# Altium integrated library Linear Technology Power Management LDO Linear Regulators.IntLib: 2339 symbols (part 35 of 131)
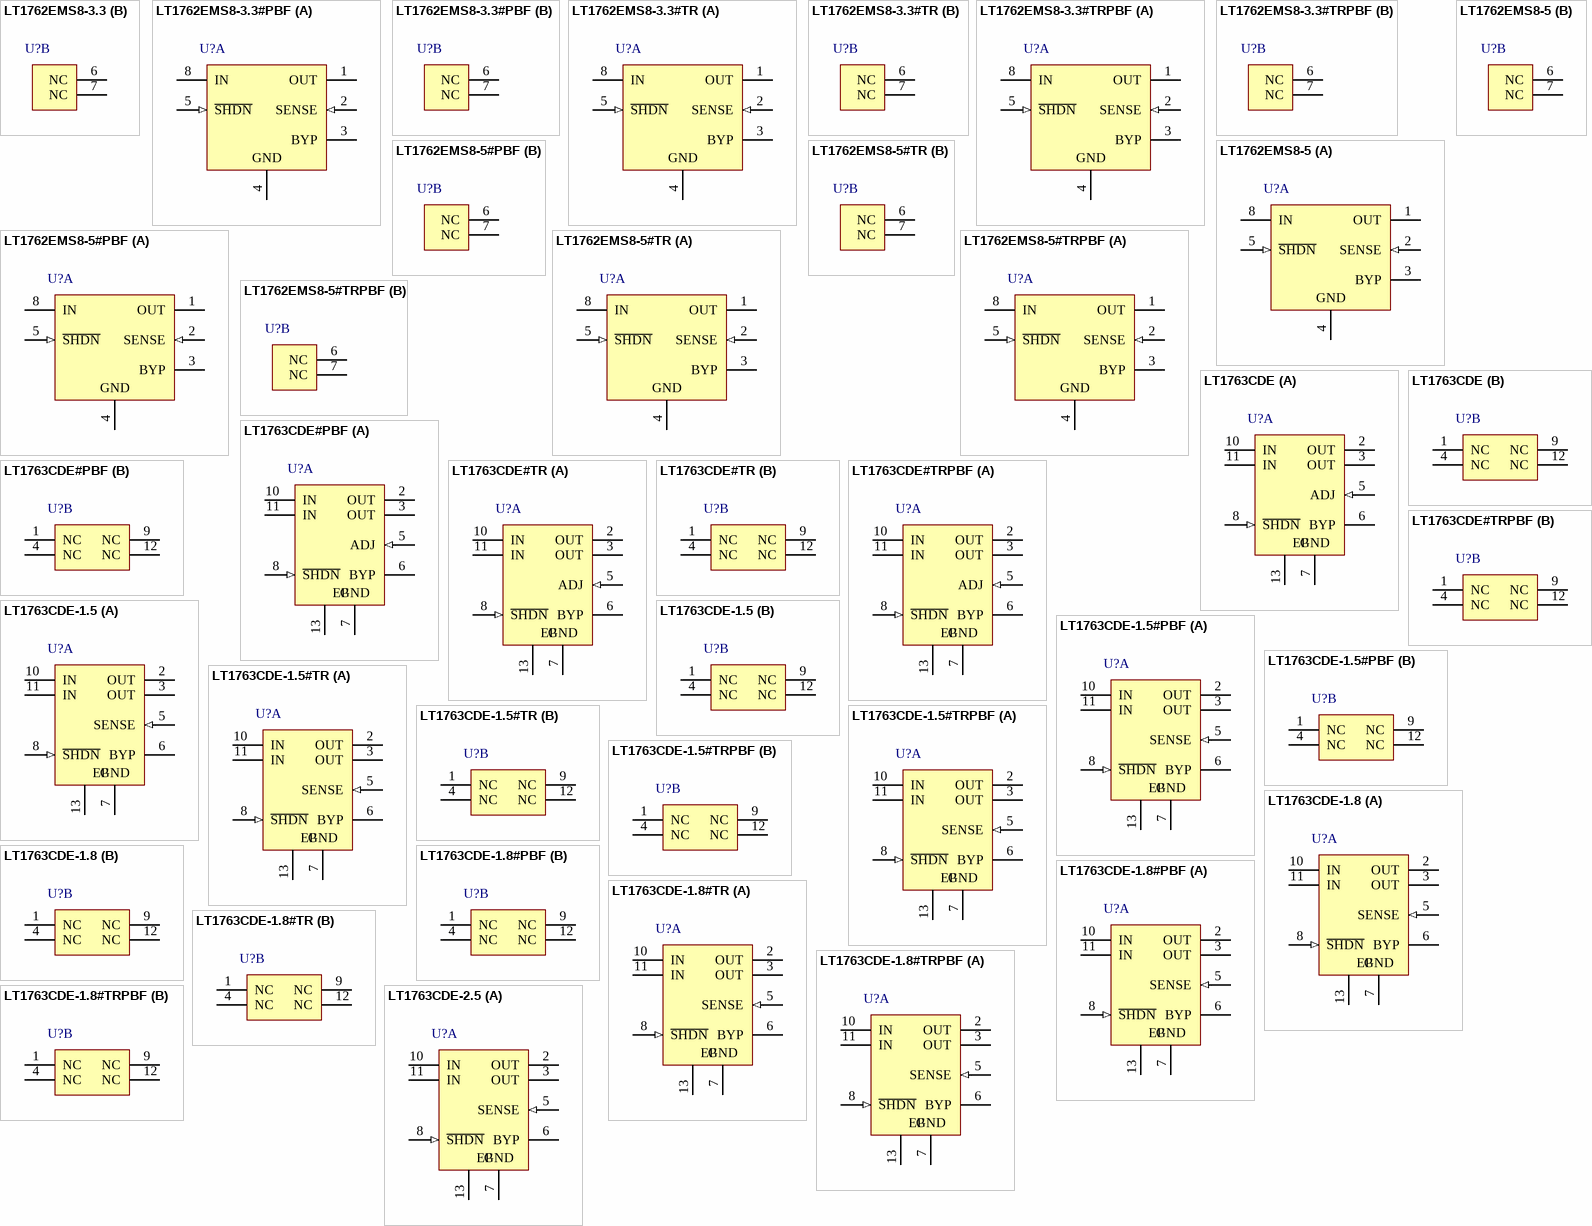
[diagram p103: symbols LT1762EMS8-3.3 to LT1763CDE-2.5]

## LT1762EMS8-5#TRPBF
designator U?
150 mA, Low Noise, LDO Micropower Regulator, 1.8 to 20 V Vin, 5 V Vout, 8-pin SOP (MS8-8), -40 to 125 degC, Pb-Free, Tape and Reel; Manufacturer: Linear Technology; PartNumber: LT1762EMS8-5#TRPBF; Discrete Pass Element: no; Dropout Voltage(V): 0.27; Iout(mA): 150; Isupply(mA): 0.025; Noise(uV): 20; Number of Outputs: 1; Output Voltage: 5 V; PSRR(dB): 65; Vin Min(V): 1.8; DatasheetVersion: Rev. A; PackageVersion: Rev. G, 05/2013; PackageReference: MS8; PackageDescription: 8-Pin Plastic MSOP, Body 3 x 3 mm, Pitch 0.65 mm; Supplier 1: Digi-Key; Supplier Part Number 1: LT1762EMS8-5#TRPBF-ND; Supplier 2: Newark; Supplier Part Number 2: 57M6010; Packing: Tape and Reel; RoHS: TRUE; Shutdown Current(uA): 1; Vin Max(V): 20; Mounting Technology: Surface Mount; ComponentLink1Description: Manufacturer URL; ComponentLink1URL: http://www.linear.com/; ComponentLink2Description: Datasheet; ComponentLink2URL: http://cds.linear.com/docs/en/datasheet/1762fa.pdf; ComponentLink3Description: Package Specification; ComponentLink3URL: http://cds.linear.com/docs/en/packaging/05081660_G_MS8.pdf
footprint LT-MS8_N (SOP, 8-Leads, Body 3x3mm, Pitch 0.65mm, IPC Medium Density)
footprint LT-MS8_L (SOP, 8-Leads, Body 3x3mm, Pitch 0.65mm, IPC High Density)
footprint LT-MS8_M (SOP, 8-Leads, Body 3x3mm, Pitch 0.65mm, IPC Low Density)
part A pins: 1 OUT (power) "Output. The output supplies power to the load.", 2 SENSE (in) "Sense. For fixed voltage versions, the SENSE pin is the input to the error amplifier. Optimum regulation will be obtained at the point where the SENSE pin is connected to the OUT pin of the regulator. In critical (See Datasheet)", 3 BYP "Bypass. The BYP pin is used to bypass the reference of the LT1762 regulators to achieve low noise performance from the regulator. The BYP pin is clamped internally to +/-0.6V (one VBE). A small capacitor from the output to (See Datasheet)", 4 GND (power) "Ground.", 5 ~{SHDN} (in) "Shutdown. The S\H\D\N\ pin is used to put the regulators into a low power shutdown state. The output will be off when the S\H\D\N\ pin is pulled low. The S\H\D\N\ pin can be driven either by 5V logic or opencollector logic (See Datasheet)", 8 IN (power) "Input. Power is supplied to the device through the IN pin. A bypass capacitor is required on this pin if the device is more than six inches away from the main input filter capacitor. In general, the output impedance of a (See Datasheet)"
part B pins: 6 NC, 7 NC

## LT1763CDE
designator U?
500 mA, Low Noise, LDO Micropower Regulator, 1.8 to 20 V Vin, Adjustable Vout, 12-pin SON (DE-UE-12), -40 to 125 degC; Manufacturer: Linear Technology; PartNumber: LT1763CDE; Discrete Pass Element: no; Dropout Voltage(V): 0.3; Iout(mA): 500; Isupply(mA): 0.03; Noise(uV): 20; Number of Outputs: 1; Output Voltage: Adj; PSRR(dB): 65; Vin Min(V): 1.8; Vout Min(V): 1.22; DatasheetVersion: Rev. G; PackageVersion: Rev. D, 06/2010; PackageReference: DE-UE-12; PackageDescription: 12-Pin Plastic DFN, Body 4 x 3 mm, Pitch 0.5 mm; Supplier 1: Newark; Supplier Part Number 1: 57M6014; RoHS: FALSE; Shutdown Current(uA): 1; Vin Max(V): 20; Vout Max(V): 20; Mounting Technology: Surface Mount; Code_JEDEC: MO-229; ComponentLink1Description: Manufacturer URL; ComponentLink1URL: http://www.linear.com/; ComponentLink2Description: Datasheet; ComponentLink2URL: http://cds.linear.com/docs/en/datasheet/1763fg.pdf; ComponentLink3Description: Package Specification; ComponentLink3URL: http://cds.linear.com/docs/en/packaging/DFN_12_05-08-1695.pdf
footprint LT-DE-UE-12_V (SON, 12-Leads, Body 4x3mm, Pitch 0.5mm, Thermal Pad 3.3x1.7mm)
part A pins: 2 OUT (power) "Output. The output supplies power to the load. A minimum output capacitor of 3.3uF is required to prevent oscillations. Larger output capacitors will be required for applications with large transient loads to limit peak (See Datasheet)", 3 OUT (power) "Output. The output supplies power to the load. A minimum output capacitor of 3.3uF is required to prevent oscillations. Larger output capacitors will be required for applications with large transient loads to limit peak (See Datasheet)", 5 ADJ (in) "Adjust. For the adjustable LT1763, this is the input to the error ampli?er. This pin is internally clamped to +/-7V. It has a bias current of 30nA which flows into the pin (see the curve of ADJ Pin Bias Current(See Datasheet)", 6 BYP "Bypass. The BYP pin is used to bypass  the reference of the LT1763 regulators to achieve low noise  performance from the regulator. The BYP pin is clamped  internally to +/-0.6V (one VBE). A small capacitor from the  output (See Datasheet)", 7 GND (power) "Ground. The exposed pad of the DFN package is an electrical connection to GND. To ensure proper electrical and thermal  performance, solder Pin 13 to the PCB ground and tie  directly to Pin 7. Connect the bottom of the (See Datasheet)", 8 ~{SHDN} (in) "Shutdown. The S\H\D\N\ pin is used  to put the LT1763 regulators into a low power shutdown state. The output will be off when the S\H\D\N\ pin is pulled low. The S\H\D\N\ pin can be driven either by 5V logic or (See Datasheet)", 10 IN (power) "Input. Power is supplied to the device through the IN pin. A bypass capacitor is required on this  pin if the device is more than six inches away from the  main input filter capacitor. In general, the output impedance of (See Datasheet)", 11 IN (power) "Input. Power is supplied to the device through the IN pin. A bypass capacitor is required on this  pin if the device is more than six inches away from the  main input filter capacitor. In general, the output impedance of (See Datasheet)", 13 EP (power) "Ground. The exposed pad of the DFN package is an electrical connection to GND. To ensure proper electrical and thermal performance, solder Pin 13 to the PCB ground and tie  directly to Pin 7. Connect the bottom of the output (See Datasheet)"
part B pins: 1 NC "No Connect. No connect  pins have no connection to any internal circuitry. These pins may be tied to either GND or VIN, or left floating.", 4 NC "No Connect. No connect  pins have no connection to any internal circuitry. These pins may be tied to either GND or VIN, or left floating.", 9 NC "No Connect. No connect  pins have no connection to any internal circuitry. These pins may be tied to either GND or VIN, or left floating.", 12 NC "No Connect. No connect  pins have no connection to any internal circuitry. These pins may be tied to either GND or VIN, or left floating."

## LT1763CDE#PBF
designator U?
500 mA, Low Noise, LDO Micropower Regulator, 1.8 to 20 V Vin, Adjustable Vout, 12-pin SON (DE-UE-12), -40 to 125 degC, Pb-Free; Manufacturer: Linear Technology; PartNumber: LT1763CDE#PBF; Discrete Pass Element: no; Dropout Voltage(V): 0.3; Iout(mA): 500; Isupply(mA): 0.03; Noise(uV): 20; Number of Outputs: 1; Output Voltage: Adj; PSRR(dB): 65; Vin Min(V): 1.8; Vout Min(V): 1.22; DatasheetVersion: Rev. G; PackageVersion: Rev. D, 06/2010; PackageReference: DE-UE-12; PackageDescription: 12-Pin Plastic DFN, Body 4 x 3 mm, Pitch 0.5 mm; Supplier 1: Digi-Key; Supplier Part Number 1: LT1763CDE#PBF-ND; Supplier 2: Farnell; Supplier Part Number 2: 1273613; Supplier 3: Newark; Supplier Part Number 3: 57M6039; RoHS: TRUE; Shutdown Current(uA): 1; Vin Max(V): 20; Vout Max(V): 20; Mounting Technology: Surface Mount; Code_JEDEC: MO-229; ComponentLink1Description: Manufacturer URL; ComponentLink1URL: http://www.linear.com/; ComponentLink2Description: Datasheet; ComponentLink2URL: http://cds.linear.com/docs/en/datasheet/1763fg.pdf; ComponentLink3Description: Package Specification; ComponentLink3URL: http://cds.linear.com/docs/en/packaging/DFN_12_05-08-1695.pdf
footprint LT-DE-UE-12_V (SON, 12-Leads, Body 4x3mm, Pitch 0.5mm, Thermal Pad 3.3x1.7mm)
part A pins: 2 OUT (power) "Output. The output supplies power to the load. A minimum output capacitor of 3.3uF is required to prevent oscillations. Larger output capacitors will be required for applications with large transient loads to limit peak (See Datasheet)", 3 OUT (power) "Output. The output supplies power to the load. A minimum output capacitor of 3.3uF is required to prevent oscillations. Larger output capacitors will be required for applications with large transient loads to limit peak (See Datasheet)", 5 ADJ (in) "Adjust. For the adjustable LT1763, this is the input to the error ampli?er. This pin is internally clamped to +/-7V. It has a bias current of 30nA which flows into the pin (see the curve of ADJ Pin Bias Current(See Datasheet)", 6 BYP "Bypass. The BYP pin is used to bypass  the reference of the LT1763 regulators to achieve low noise  performance from the regulator. The BYP pin is clamped  internally to +/-0.6V (one VBE). A small capacitor from the  output (See Datasheet)", 7 GND (power) "Ground. The exposed pad of the DFN package is an electrical connection to GND. To ensure proper electrical and thermal  performance, solder Pin 13 to the PCB ground and tie  directly to Pin 7. Connect the bottom of the (See Datasheet)", 8 ~{SHDN} (in) "Shutdown. The S\H\D\N\ pin is used  to put the LT1763 regulators into a low power shutdown state. The output will be off when the S\H\D\N\ pin is pulled low. The S\H\D\N\ pin can be driven either by 5V logic or (See Datasheet)", 10 IN (power) "Input. Power is supplied to the device through the IN pin. A bypass capacitor is required on this  pin if the device is more than six inches away from the  main input filter capacitor. In general, the output impedance of (See Datasheet)", 11 IN (power) "Input. Power is supplied to the device through the IN pin. A bypass capacitor is required on this  pin if the device is more than six inches away from the  main input filter capacitor. In general, the output impedance of (See Datasheet)", 13 EP (power) "Ground. The exposed pad of the DFN package is an electrical connection to GND. To ensure proper electrical and thermal performance, solder Pin 13 to the PCB ground and tie  directly to Pin 7. Connect the bottom of the output (See Datasheet)"
part B pins: 1 NC "No Connect. No connect  pins have no connection to any internal circuitry. These pins may be tied to either GND or VIN, or left floating.", 4 NC "No Connect. No connect  pins have no connection to any internal circuitry. These pins may be tied to either GND or VIN, or left floating.", 9 NC "No Connect. No connect  pins have no connection to any internal circuitry. These pins may be tied to either GND or VIN, or left floating.", 12 NC "No Connect. No connect  pins have no connection to any internal circuitry. These pins may be tied to either GND or VIN, or left floating."

## LT1763CDE#TR
designator U?
500 mA, Low Noise, LDO Micropower Regulator, 1.8 to 20 V Vin, Adjustable Vout, 12-pin SON (DE-UE-12), -40 to 125 degC, Tape and Reel; Manufacturer: Linear Technology; PartNumber: LT1763CDE#TR; Discrete Pass Element: no; Dropout Voltage(V): 0.3; Iout(mA): 500; Isupply(mA): 0.03; Noise(uV): 20; Number of Outputs: 1; Output Voltage: Adj; PSRR(dB): 65; Vin Min(V): 1.8; Vout Min(V): 1.22; DatasheetVersion: Rev. G; PackageVersion: Rev. D, 06/2010; PackageReference: DE-UE-12; PackageDescription: 12-Pin Plastic DFN, Body 4 x 3 mm, Pitch 0.5 mm; Supplier 1: Newark; Supplier Part Number 1: 57M6040; Packing: Tape and Reel; RoHS: FALSE; Shutdown Current(uA): 1; Vin Max(V): 20; Vout Max(V): 20; Mounting Technology: Surface Mount; Code_JEDEC: MO-229; ComponentLink1Description: Manufacturer URL; ComponentLink1URL: http://www.linear.com/; ComponentLink2Description: Datasheet; ComponentLink2URL: http://cds.linear.com/docs/en/datasheet/1763fg.pdf; ComponentLink3Description: Package Specification; ComponentLink3URL: http://cds.linear.com/docs/en/packaging/DFN_12_05-08-1695.pdf
footprint LT-DE-UE-12_V (SON, 12-Leads, Body 4x3mm, Pitch 0.5mm, Thermal Pad 3.3x1.7mm)
part A pins: 2 OUT (power) "Output. The output supplies power to the load. A minimum output capacitor of 3.3uF is required to prevent oscillations. Larger output capacitors will be required for applications with large transient loads to limit peak (See Datasheet)", 3 OUT (power) "Output. The output supplies power to the load. A minimum output capacitor of 3.3uF is required to prevent oscillations. Larger output capacitors will be required for applications with large transient loads to limit peak (See Datasheet)", 5 ADJ (in) "Adjust. For the adjustable LT1763, this is the input to the error ampli?er. This pin is internally clamped to +/-7V. It has a bias current of 30nA which flows into the pin (see the curve of ADJ Pin Bias Current(See Datasheet)", 6 BYP "Bypass. The BYP pin is used to bypass  the reference of the LT1763 regulators to achieve low noise  performance from the regulator. The BYP pin is clamped  internally to +/-0.6V (one VBE). A small capacitor from the  output (See Datasheet)", 7 GND (power) "Ground. The exposed pad of the DFN package is an electrical connection to GND. To ensure proper electrical and thermal  performance, solder Pin 13 to the PCB ground and tie  directly to Pin 7. Connect the bottom of the (See Datasheet)", 8 ~{SHDN} (in) "Shutdown. The S\H\D\N\ pin is used  to put the LT1763 regulators into a low power shutdown state. The output will be off when the S\H\D\N\ pin is pulled low. The S\H\D\N\ pin can be driven either by 5V logic or (See Datasheet)", 10 IN (power) "Input. Power is supplied to the device through the IN pin. A bypass capacitor is required on this  pin if the device is more than six inches away from the  main input filter capacitor. In general, the output impedance of (See Datasheet)", 11 IN (power) "Input. Power is supplied to the device through the IN pin. A bypass capacitor is required on this  pin if the device is more than six inches away from the  main input filter capacitor. In general, the output impedance of (See Datasheet)", 13 EP (power) "Ground. The exposed pad of the DFN package is an electrical connection to GND. To ensure proper electrical and thermal performance, solder Pin 13 to the PCB ground and tie  directly to Pin 7. Connect the bottom of the output (See Datasheet)"
part B pins: 1 NC "No Connect. No connect  pins have no connection to any internal circuitry. These pins may be tied to either GND or VIN, or left floating.", 4 NC "No Connect. No connect  pins have no connection to any internal circuitry. These pins may be tied to either GND or VIN, or left floating.", 9 NC "No Connect. No connect  pins have no connection to any internal circuitry. These pins may be tied to either GND or VIN, or left floating.", 12 NC "No Connect. No connect  pins have no connection to any internal circuitry. These pins may be tied to either GND or VIN, or left floating."

## LT1763CDE#TRPBF
designator U?
500 mA, Low Noise, LDO Micropower Regulator, 1.8 to 20 V Vin, Adjustable Vout, 12-pin SON (DE-UE-12), -40 to 125 degC, Pb-Free, Tape and Reel; Manufacturer: Linear Technology; PartNumber: LT1763CDE#TRPBF; Discrete Pass Element: no; Dropout Voltage(V): 0.3; Iout(mA): 500; Isupply(mA): 0.03; Noise(uV): 20; Number of Outputs: 1; Output Voltage: Adj; PSRR(dB): 65; Vin Min(V): 1.8; Vout Min(V): 1.22; DatasheetVersion: Rev. G; PackageVersion: Rev. D, 06/2010; PackageReference: DE-UE-12; PackageDescription: 12-Pin Plastic DFN, Body 4 x 3 mm, Pitch 0.5 mm; Supplier 1: Digi-Key; Supplier Part Number 1: LT1763CDE#TRPBF-ND; Supplier 2: Newark; Supplier Part Number 2: 57M6041; Packing: Tape and Reel; RoHS: TRUE; Shutdown Current(uA): 1; Vin Max(V): 20; Vout Max(V): 20; Mounting Technology: Surface Mount; Code_JEDEC: MO-229; ComponentLink1Description: Manufacturer URL; ComponentLink1URL: http://www.linear.com/; ComponentLink2Description: Datasheet; ComponentLink2URL: http://cds.linear.com/docs/en/datasheet/1763fg.pdf; ComponentLink3Description: Package Specification; ComponentLink3URL: http://cds.linear.com/docs/en/packaging/DFN_12_05-08-1695.pdf
footprint LT-DE-UE-12_V (SON, 12-Leads, Body 4x3mm, Pitch 0.5mm, Thermal Pad 3.3x1.7mm)
part A pins: 2 OUT (power) "Output. The output supplies power to the load. A minimum output capacitor of 3.3uF is required to prevent oscillations. Larger output capacitors will be required for applications with large transient loads to limit peak (See Datasheet)", 3 OUT (power) "Output. The output supplies power to the load. A minimum output capacitor of 3.3uF is required to prevent oscillations. Larger output capacitors will be required for applications with large transient loads to limit peak (See Datasheet)", 5 ADJ (in) "Adjust. For the adjustable LT1763, this is the input to the error ampli?er. This pin is internally clamped to +/-7V. It has a bias current of 30nA which flows into the pin (see the curve of ADJ Pin Bias Current(See Datasheet)", 6 BYP "Bypass. The BYP pin is used to bypass  the reference of the LT1763 regulators to achieve low noise  performance from the regulator. The BYP pin is clamped  internally to +/-0.6V (one VBE). A small capacitor from the  output (See Datasheet)", 7 GND (power) "Ground. The exposed pad of the DFN package is an electrical connection to GND. To ensure proper electrical and thermal  performance, solder Pin 13 to the PCB ground and tie  directly to Pin 7. Connect the bottom of the (See Datasheet)", 8 ~{SHDN} (in) "Shutdown. The S\H\D\N\ pin is used  to put the LT1763 regulators into a low power shutdown state. The output will be off when the S\H\D\N\ pin is pulled low. The S\H\D\N\ pin can be driven either by 5V logic or (See Datasheet)", 10 IN (power) "Input. Power is supplied to the device through the IN pin. A bypass capacitor is required on this  pin if the device is more than six inches away from the  main input filter capacitor. In general, the output impedance of (See Datasheet)", 11 IN (power) "Input. Power is supplied to the device through the IN pin. A bypass capacitor is required on this  pin if the device is more than six inches away from the  main input filter capacitor. In general, the output impedance of (See Datasheet)", 13 EP (power) "Ground. The exposed pad of the DFN package is an electrical connection to GND. To ensure proper electrical and thermal performance, solder Pin 13 to the PCB ground and tie  directly to Pin 7. Connect the bottom of the output (See Datasheet)"
part B pins: 1 NC "No Connect. No connect  pins have no connection to any internal circuitry. These pins may be tied to either GND or VIN, or left floating.", 4 NC "No Connect. No connect  pins have no connection to any internal circuitry. These pins may be tied to either GND or VIN, or left floating.", 9 NC "No Connect. No connect  pins have no connection to any internal circuitry. These pins may be tied to either GND or VIN, or left floating.", 12 NC "No Connect. No connect  pins have no connection to any internal circuitry. These pins may be tied to either GND or VIN, or left floating."

## LT1763CDE-1.5
designator U?
500 mA, Low Noise, LDO Micropower Regulator, 1.8 to 20 V Vin, 1.5 V Vout, 12-pin SON (DE-UE-12), -40 to 125 degC; Manufacturer: Linear Technology; PartNumber: LT1763CDE-1.5; Discrete Pass Element: no; Dropout Voltage(V): 0.3; Iout(mA): 500; Isupply(mA): 0.03; Noise(uV): 20; Number of Outputs: 1; Output Voltage: 1.5 V; PSRR(dB): 65; Vin Min(V): 1.8; DatasheetVersion: Rev. G; PackageVersion: Rev. D, 06/2010; PackageReference: DE-UE-12; PackageDescription: 12-Pin Plastic DFN, Body 4 x 3 mm, Pitch 0.5 mm; RoHS: FALSE; Shutdown Current(uA): 1; Vin Max(V): 20; Mounting Technology: Surface Mount; Code_JEDEC: MO-229; ComponentLink1Description: Manufacturer URL; ComponentLink1URL: http://www.linear.com/; ComponentLink2Description: Datasheet; ComponentLink2URL: http://cds.linear.com/docs/en/datasheet/1763fg.pdf; ComponentLink3Description: Package Specification; ComponentLink3URL: http://cds.linear.com/docs/en/packaging/DFN_12_05-08-1695.pdf
footprint LT-DE-UE-12_V (SON, 12-Leads, Body 4x3mm, Pitch 0.5mm, Thermal Pad 3.3x1.7mm)
part A pins: 2 OUT (power) "Output. The output supplies power to the load. A minimum output capacitor of 3.3uF is required to prevent oscillations. Larger output capacitors will be required for applications with large transient loads to limit peak (See Datasheet)", 3 OUT (power) "Output. The output supplies power to the load. A minimum output capacitor of 3.3uF is required to prevent oscillations. Larger output capacitors will be required for applications with large transient loads to limit peak (See Datasheet)", 5 SENSE (in) "Output Sense. For ?xed voltage versions of the LT1763 (LT1763-1.5/LT1763-1.8/ LT1763-2.5/LT1763-3/LT1763-3.3/LT1763-5), the SENSE pin is the input to the error amplifier. Optimum regulation will be obtained at the po(See Datasheet)", 6 BYP "Bypass. The BYP pin is used to bypass  the reference of the LT1763 regulators to achieve low noise  performance from the regulator. The BYP pin is clamped  internally to +/-0.6V (one VBE). A small capacitor from the  output (See Datasheet)", 7 GND (power) "Ground. The exposed pad of the DFN package is an electrical connection to GND. To ensure proper electrical and thermal  performance, solder Pin 13 to the PCB ground and tie  directly to Pin 7. Connect the bottom of the (See Datasheet)", 8 ~{SHDN} (in) "Shutdown. The S\H\D\N\ pin is used  to put the LT1763 regulators into a low power shutdown state. The output will be off when the S\H\D\N\ pin is pulled low. The S\H\D\N\ pin can be driven either by 5V logic or (See Datasheet)", 10 IN (power) "Input. Power is supplied to the device through the IN pin. A bypass capacitor is required on this  pin if the device is more than six inches away from the  main input filter capacitor. In general, the output impedance of (See Datasheet)", 11 IN (power) "Input. Power is supplied to the device through the IN pin. A bypass capacitor is required on this  pin if the device is more than six inches away from the  main input filter capacitor. In general, the output impedance of (See Datasheet)", 13 EP (power) "Ground. The exposed pad of the DFN package is an electrical connection to GND. To ensure proper electrical and thermal performance, solder Pin 13 to the PCB ground and tie  directly to Pin 7. Connect the bottom of the output (See Datasheet)"
part B pins: 1 NC "No Connect. No connect  pins have no connection to any internal circuitry. These pins may be tied to either GND or VIN, or left floating.", 4 NC "No Connect. No connect  pins have no connection to any internal circuitry. These pins may be tied to either GND or VIN, or left floating.", 9 NC "No Connect. No connect  pins have no connection to any internal circuitry. These pins may be tied to either GND or VIN, or left floating.", 12 NC "No Connect. No connect  pins have no connection to any internal circuitry. These pins may be tied to either GND or VIN, or left ?oating."

## LT1763CDE-1.5#PBF
designator U?
500 mA, Low Noise, LDO Micropower Regulator, 1.8 to 20 V Vin, 1.5 V Vout, 12-pin SON (DE-UE-12), -40 to 125 degC, Pb-Free; Manufacturer: Linear Technology; PartNumber: LT1763CDE-1.5#PBF; Discrete Pass Element: no; Dropout Voltage(V): 0.3; Iout(mA): 500; Isupply(mA): 0.03; Noise(uV): 20; Number of Outputs: 1; Output Voltage: 1.5 V; PSRR(dB): 65; Vin Min(V): 1.8; DatasheetVersion: Rev. G; PackageVersion: Rev. D, 06/2010; PackageReference: DE-UE-12; PackageDescription: 12-Pin Plastic DFN, Body 4 x 3 mm, Pitch 0.5 mm; Supplier 1: Digi-Key; Supplier Part Number 1: LT1763CDE-1.5#PBF-ND; RoHS: TRUE; Shutdown Current(uA): 1; Vin Max(V): 20; Mounting Technology: Surface Mount; Code_JEDEC: MO-229; ComponentLink1Description: Manufacturer URL; ComponentLink1URL: http://www.linear.com/; ComponentLink2Description: Datasheet; ComponentLink2URL: http://cds.linear.com/docs/en/datasheet/1763fg.pdf; ComponentLink3Description: Package Specification; ComponentLink3URL: http://cds.linear.com/docs/en/packaging/DFN_12_05-08-1695.pdf
footprint LT-DE-UE-12_V (SON, 12-Leads, Body 4x3mm, Pitch 0.5mm, Thermal Pad 3.3x1.7mm)
part A pins: 2 OUT (power) "Output. The output supplies power to the load. A minimum output capacitor of 3.3uF is required to prevent oscillations. Larger output capacitors will be required for applications with large transient loads to limit peak (See Datasheet)", 3 OUT (power) "Output. The output supplies power to the load. A minimum output capacitor of 3.3uF is required to prevent oscillations. Larger output capacitors will be required for applications with large transient loads to limit peak (See Datasheet)", 5 SENSE (in) "Output Sense. For ?xed voltage versions of the LT1763 (LT1763-1.5/LT1763-1.8/ LT1763-2.5/LT1763-3/LT1763-3.3/LT1763-5), the SENSE pin is the input to the error amplifier. Optimum regulation will be obtained at the po(See Datasheet)", 6 BYP "Bypass. The BYP pin is used to bypass  the reference of the LT1763 regulators to achieve low noise  performance from the regulator. The BYP pin is clamped  internally to +/-0.6V (one VBE). A small capacitor from the  output (See Datasheet)", 7 GND (power) "Ground. The exposed pad of the DFN package is an electrical connection to GND. To ensure proper electrical and thermal  performance, solder Pin 13 to the PCB ground and tie  directly to Pin 7. Connect the bottom of the (See Datasheet)", 8 ~{SHDN} (in) "Shutdown. The S\H\D\N\ pin is used  to put the LT1763 regulators into a low power shutdown state. The output will be off when the S\H\D\N\ pin is pulled low. The S\H\D\N\ pin can be driven either by 5V logic or (See Datasheet)", 10 IN (power) "Input. Power is supplied to the device through the IN pin. A bypass capacitor is required on this  pin if the device is more than six inches away from the  main input filter capacitor. In general, the output impedance of (See Datasheet)", 11 IN (power) "Input. Power is supplied to the device through the IN pin. A bypass capacitor is required on this  pin if the device is more than six inches away from the  main input filter capacitor. In general, the output impedance of (See Datasheet)", 13 EP (power) "Ground. The exposed pad of the DFN package is an electrical connection to GND. To ensure proper electrical and thermal performance, solder Pin 13 to the PCB ground and tie  directly to Pin 7. Connect the bottom of the output (See Datasheet)"
part B pins: 1 NC "No Connect. No connect  pins have no connection to any internal circuitry. These pins may be tied to either GND or VIN, or left floating.", 4 NC "No Connect. No connect  pins have no connection to any internal circuitry. These pins may be tied to either GND or VIN, or left floating.", 9 NC "No Connect. No connect  pins have no connection to any internal circuitry. These pins may be tied to either GND or VIN, or left floating.", 12 NC "No Connect. No connect  pins have no connection to any internal circuitry. These pins may be tied to either GND or VIN, or left ?oating."

## LT1763CDE-1.5#TR
designator U?
500 mA, Low Noise, LDO Micropower Regulator, 1.8 to 20 V Vin, 1.5 V Vout, 12-pin SON (DE-UE-12), -40 to 125 degC, Tape and Reel; Manufacturer: Linear Technology; PartNumber: LT1763CDE-1.5#TR; Discrete Pass Element: no; Dropout Voltage(V): 0.3; Iout(mA): 500; Isupply(mA): 0.03; Noise(uV): 20; Number of Outputs: 1; Output Voltage: 1.5 V; PSRR(dB): 65; Vin Min(V): 1.8; DatasheetVersion: Rev. G; PackageVersion: Rev. D, 06/2010; PackageReference: DE-UE-12; PackageDescription: 12-Pin Plastic DFN, Body 4 x 3 mm, Pitch 0.5 mm; Packing: Tape and Reel; RoHS: FALSE; Shutdown Current(uA): 1; Vin Max(V): 20; Mounting Technology: Surface Mount; Code_JEDEC: MO-229; ComponentLink1Description: Manufacturer URL; ComponentLink1URL: http://www.linear.com/; ComponentLink2Description: Datasheet; ComponentLink2URL: http://cds.linear.com/docs/en/datasheet/1763fg.pdf; ComponentLink3Description: Package Specification; ComponentLink3URL: http://cds.linear.com/docs/en/packaging/DFN_12_05-08-1695.pdf
footprint LT-DE-UE-12_V (SON, 12-Leads, Body 4x3mm, Pitch 0.5mm, Thermal Pad 3.3x1.7mm)
part A pins: 2 OUT (power) "Output. The output supplies power to the load. A minimum output capacitor of 3.3uF is required to prevent oscillations. Larger output capacitors will be required for applications with large transient loads to limit peak (See Datasheet)", 3 OUT (power) "Output. The output supplies power to the load. A minimum output capacitor of 3.3uF is required to prevent oscillations. Larger output capacitors will be required for applications with large transient loads to limit peak (See Datasheet)", 5 SENSE (in) "Output Sense. For ?xed voltage versions of the LT1763 (LT1763-1.5/LT1763-1.8/ LT1763-2.5/LT1763-3/LT1763-3.3/LT1763-5), the SENSE pin is the input to the error amplifier. Optimum regulation will be obtained at the po(See Datasheet)", 6 BYP "Bypass. The BYP pin is used to bypass  the reference of the LT1763 regulators to achieve low noise  performance from the regulator. The BYP pin is clamped  internally to +/-0.6V (one VBE). A small capacitor from the  output (See Datasheet)", 7 GND (power) "Ground. The exposed pad of the DFN package is an electrical connection to GND. To ensure proper electrical and thermal  performance, solder Pin 13 to the PCB ground and tie  directly to Pin 7. Connect the bottom of the (See Datasheet)", 8 ~{SHDN} (in) "Shutdown. The S\H\D\N\ pin is used  to put the LT1763 regulators into a low power shutdown state. The output will be off when the S\H\D\N\ pin is pulled low. The S\H\D\N\ pin can be driven either by 5V logic or (See Datasheet)", 10 IN (power) "Input. Power is supplied to the device through the IN pin. A bypass capacitor is required on this  pin if the device is more than six inches away from the  main input filter capacitor. In general, the output impedance of (See Datasheet)", 11 IN (power) "Input. Power is supplied to the device through the IN pin. A bypass capacitor is required on this  pin if the device is more than six inches away from the  main input filter capacitor. In general, the output impedance of (See Datasheet)", 13 EP (power) "Ground. The exposed pad of the DFN package is an electrical connection to GND. To ensure proper electrical and thermal performance, solder Pin 13 to the PCB ground and tie  directly to Pin 7. Connect the bottom of the output (See Datasheet)"
part B pins: 1 NC "No Connect. No connect  pins have no connection to any internal circuitry. These pins may be tied to either GND or VIN, or left floating.", 4 NC "No Connect. No connect  pins have no connection to any internal circuitry. These pins may be tied to either GND or VIN, or left floating.", 9 NC "No Connect. No connect  pins have no connection to any internal circuitry. These pins may be tied to either GND or VIN, or left floating.", 12 NC "No Connect. No connect  pins have no connection to any internal circuitry. These pins may be tied to either GND or VIN, or left ?oating."

## LT1763CDE-1.5#TRPBF
designator U?
500 mA, Low Noise, LDO Micropower Regulator, 1.8 to 20 V Vin, 1.5 V Vout, 12-pin SON (DE-UE-12), -40 to 125 degC, Pb-Free, Tape and Reel; Manufacturer: Linear Technology; PartNumber: LT1763CDE-1.5#TRPBF; Discrete Pass Element: no; Dropout Voltage(V): 0.3; Iout(mA): 500; Isupply(mA): 0.03; Noise(uV): 20; Number of Outputs: 1; Output Voltage: 1.5 V; PSRR(dB): 65; Vin Min(V): 1.8; DatasheetVersion: Rev. G; PackageVersion: Rev. D, 06/2010; PackageReference: DE-UE-12; PackageDescription: 12-Pin Plastic DFN, Body 4 x 3 mm, Pitch 0.5 mm; Supplier 1: Digi-Key; Supplier Part Number 1: LT1763CDE-1.5#TRPBF-ND; Packing: Tape and Reel; RoHS: TRUE; Shutdown Current(uA): 1; Vin Max(V): 20; Mounting Technology: Surface Mount; Code_JEDEC: MO-229; ComponentLink1Description: Manufacturer URL; ComponentLink1URL: http://www.linear.com/; ComponentLink2Description: Datasheet; ComponentLink2URL: http://cds.linear.com/docs/en/datasheet/1763fg.pdf; ComponentLink3Description: Package Specification; ComponentLink3URL: http://cds.linear.com/docs/en/packaging/DFN_12_05-08-1695.pdf
footprint LT-DE-UE-12_V (SON, 12-Leads, Body 4x3mm, Pitch 0.5mm, Thermal Pad 3.3x1.7mm)
part A pins: 2 OUT (power) "Output. The output supplies power to the load. A minimum output capacitor of 3.3uF is required to prevent oscillations. Larger output capacitors will be required for applications with large transient loads to limit peak (See Datasheet)", 3 OUT (power) "Output. The output supplies power to the load. A minimum output capacitor of 3.3uF is required to prevent oscillations. Larger output capacitors will be required for applications with large transient loads to limit peak (See Datasheet)", 5 SENSE (in) "Output Sense. For ?xed voltage versions of the LT1763 (LT1763-1.5/LT1763-1.8/ LT1763-2.5/LT1763-3/LT1763-3.3/LT1763-5), the SENSE pin is the input to the error amplifier. Optimum regulation will be obtained at the po(See Datasheet)", 6 BYP "Bypass. The BYP pin is used to bypass  the reference of the LT1763 regulators to achieve low noise  performance from the regulator. The BYP pin is clamped  internally to +/-0.6V (one VBE). A small capacitor from the  output (See Datasheet)", 7 GND (power) "Ground. The exposed pad of the DFN package is an electrical connection to GND. To ensure proper electrical and thermal  performance, solder Pin 13 to the PCB ground and tie  directly to Pin 7. Connect the bottom of the (See Datasheet)", 8 ~{SHDN} (in) "Shutdown. The S\H\D\N\ pin is used  to put the LT1763 regulators into a low power shutdown state. The output will be off when the S\H\D\N\ pin is pulled low. The S\H\D\N\ pin can be driven either by 5V logic or (See Datasheet)", 10 IN (power) "Input. Power is supplied to the device through the IN pin. A bypass capacitor is required on this  pin if the device is more than six inches away from the  main input filter capacitor. In general, the output impedance of (See Datasheet)", 11 IN (power) "Input. Power is supplied to the device through the IN pin. A bypass capacitor is required on this  pin if the device is more than six inches away from the  main input filter capacitor. In general, the output impedance of (See Datasheet)", 13 EP (power) "Ground. The exposed pad of the DFN package is an electrical connection to GND. To ensure proper electrical and thermal performance, solder Pin 13 to the PCB ground and tie  directly to Pin 7. Connect the bottom of the output (See Datasheet)"
part B pins: 1 NC "No Connect. No connect  pins have no connection to any internal circuitry. These pins may be tied to either GND or VIN, or left floating.", 4 NC "No Connect. No connect  pins have no connection to any internal circuitry. These pins may be tied to either GND or VIN, or left floating.", 9 NC "No Connect. No connect  pins have no connection to any internal circuitry. These pins may be tied to either GND or VIN, or left floating.", 12 NC "No Connect. No connect  pins have no connection to any internal circuitry. These pins may be tied to either GND or VIN, or left ?oating."

## LT1763CDE-1.8
designator U?
500 mA, Low Noise, LDO Micropower Regulator, 1.8 to 20 V Vin, 1.8 V Vout, 12-pin SON (DE-UE-12), -40 to 125 degC; Manufacturer: Linear Technology; PartNumber: LT1763CDE-1.8; Discrete Pass Element: no; Dropout Voltage(V): 0.3; Iout(mA): 500; Isupply(mA): 0.03; Noise(uV): 20; Number of Outputs: 1; Output Voltage: 1.8 V; PSRR(dB): 65; Vin Min(V): 1.8; DatasheetVersion: Rev. G; PackageVersion: Rev. D, 06/2010; PackageReference: DE-UE-12; PackageDescription: 12-Pin Plastic DFN, Body 4 x 3 mm, Pitch 0.5 mm; Supplier 1: Newark; Supplier Part Number 1: 57M6019; RoHS: FALSE; Shutdown Current(uA): 1; Vin Max(V): 20; Mounting Technology: Surface Mount; Code_JEDEC: MO-229; ComponentLink1Description: Manufacturer URL; ComponentLink1URL: http://www.linear.com/; ComponentLink2Description: Datasheet; ComponentLink2URL: http://cds.linear.com/docs/en/datasheet/1763fg.pdf; ComponentLink3Description: Package Specification; ComponentLink3URL: http://cds.linear.com/docs/en/packaging/DFN_12_05-08-1695.pdf
footprint LT-DE-UE-12_V (SON, 12-Leads, Body 4x3mm, Pitch 0.5mm, Thermal Pad 3.3x1.7mm)
part A pins: 2 OUT (power) "Output. The output supplies power to the load. A minimum output capacitor of 3.3uF is required to prevent oscillations. Larger output capacitors will be required for applications with large transient loads to limit peak (See Datasheet)", 3 OUT (power) "Output. The output supplies power to the load. A minimum output capacitor of 3.3uF is required to prevent oscillations. Larger output capacitors will be required for applications with large transient loads to limit peak (See Datasheet)", 5 SENSE (in) "Output Sense. For ?xed voltage versions of the LT1763 (LT1763-1.5/LT1763-1.8/ LT1763-2.5/LT1763-3/LT1763-3.3/LT1763-5), the SENSE pin is the input to the error amplifier. Optimum regulation will be obtained at the po(See Datasheet)", 6 BYP "Bypass. The BYP pin is used to bypass  the reference of the LT1763 regulators to achieve low noise  performance from the regulator. The BYP pin is clamped  internally to +/-0.6V (one VBE). A small capacitor from the  output (See Datasheet)", 7 GND (power) "Ground. The exposed pad of the DFN package is an electrical connection to GND. To ensure proper electrical and thermal  performance, solder Pin 13 to the PCB ground and tie  directly to Pin 7. Connect the bottom of the (See Datasheet)", 8 ~{SHDN} (in) "Shutdown. The S\H\D\N\ pin is used  to put the LT1763 regulators into a low power shutdown state. The output will be off when the S\H\D\N\ pin is pulled low. The S\H\D\N\ pin can be driven either by 5V logic or (See Datasheet)", 10 IN (power) "Input. Power is supplied to the device through the IN pin. A bypass capacitor is required on this  pin if the device is more than six inches away from the  main input filter capacitor. In general, the output impedance of (See Datasheet)", 11 IN (power) "Input. Power is supplied to the device through the IN pin. A bypass capacitor is required on this  pin if the device is more than six inches away from the  main input filter capacitor. In general, the output impedance of (See Datasheet)", 13 EP (power) "Ground. The exposed pad of the DFN package is an electrical connection to GND. To ensure proper electrical and thermal performance, solder Pin 13 to the PCB ground and tie  directly to Pin 7. Connect the bottom of the output (See Datasheet)"
part B pins: 1 NC "No Connect. No connect  pins have no connection to any internal circuitry. These pins may be tied to either GND or VIN, or left floating.", 4 NC "No Connect. No connect  pins have no connection to any internal circuitry. These pins may be tied to either GND or VIN, or left floating.", 9 NC "No Connect. No connect  pins have no connection to any internal circuitry. These pins may be tied to either GND or VIN, or left floating.", 12 NC "No Connect. No connect  pins have no connection to any internal circuitry. These pins may be tied to either GND or VIN, or left ?oating."

## LT1763CDE-1.8#PBF
designator U?
500 mA, Low Noise, LDO Micropower Regulator, 1.8 to 20 V Vin, 1.8 V Vout, 12-pin SON (DE-UE-12), -40 to 125 degC, Pb-Free; Manufacturer: Linear Technology; PartNumber: LT1763CDE-1.8#PBF; Discrete Pass Element: no; Dropout Voltage(V): 0.3; Iout(mA): 500; Isupply(mA): 0.03; Noise(uV): 20; Number of Outputs: 1; Output Voltage: 1.8 V; PSRR(dB): 65; Vin Min(V): 1.8; DatasheetVersion: Rev. G; PackageVersion: Rev. D, 06/2010; PackageReference: DE-UE-12; PackageDescription: 12-Pin Plastic DFN, Body 4 x 3 mm, Pitch 0.5 mm; Supplier 1: Digi-Key; Supplier Part Number 1: LT1763CDE-1.8#PBF-ND; Supplier 2: Farnell; Supplier Part Number 2: 2254843; Supplier 3: Newark; Supplier Part Number 3: 57M6020; RoHS: TRUE; Shutdown Current(uA): 1; Vin Max(V): 20; Mounting Technology: Surface Mount; Code_JEDEC: MO-229; ComponentLink1Description: Manufacturer URL; ComponentLink1URL: http://www.linear.com/; ComponentLink2Description: Datasheet; ComponentLink2URL: http://cds.linear.com/docs/en/datasheet/1763fg.pdf; ComponentLink3Description: Package Specification; ComponentLink3URL: http://cds.linear.com/docs/en/packaging/DFN_12_05-08-1695.pdf
footprint LT-DE-UE-12_V (SON, 12-Leads, Body 4x3mm, Pitch 0.5mm, Thermal Pad 3.3x1.7mm)
part A pins: 2 OUT (power) "Output. The output supplies power to the load. A minimum output capacitor of 3.3uF is required to prevent oscillations. Larger output capacitors will be required for applications with large transient loads to limit peak (See Datasheet)", 3 OUT (power) "Output. The output supplies power to the load. A minimum output capacitor of 3.3uF is required to prevent oscillations. Larger output capacitors will be required for applications with large transient loads to limit peak (See Datasheet)", 5 SENSE (in) "Output Sense. For ?xed voltage versions of the LT1763 (LT1763-1.5/LT1763-1.8/ LT1763-2.5/LT1763-3/LT1763-3.3/LT1763-5), the SENSE pin is the input to the error amplifier. Optimum regulation will be obtained at the po(See Datasheet)", 6 BYP "Bypass. The BYP pin is used to bypass  the reference of the LT1763 regulators to achieve low noise  performance from the regulator. The BYP pin is clamped  internally to +/-0.6V (one VBE). A small capacitor from the  output (See Datasheet)", 7 GND (power) "Ground. The exposed pad of the DFN package is an electrical connection to GND. To ensure proper electrical and thermal  performance, solder Pin 13 to the PCB ground and tie  directly to Pin 7. Connect the bottom of the (See Datasheet)", 8 ~{SHDN} (in) "Shutdown. The S\H\D\N\ pin is used  to put the LT1763 regulators into a low power shutdown state. The output will be off when the S\H\D\N\ pin is pulled low. The S\H\D\N\ pin can be driven either by 5V logic or (See Datasheet)", 10 IN (power) "Input. Power is supplied to the device through the IN pin. A bypass capacitor is required on this  pin if the device is more than six inches away from the  main input filter capacitor. In general, the output impedance of (See Datasheet)", 11 IN (power) "Input. Power is supplied to the device through the IN pin. A bypass capacitor is required on this  pin if the device is more than six inches away from the  main input filter capacitor. In general, the output impedance of (See Datasheet)", 13 EP (power) "Ground. The exposed pad of the DFN package is an electrical connection to GND. To ensure proper electrical and thermal performance, solder Pin 13 to the PCB ground and tie  directly to Pin 7. Connect the bottom of the output (See Datasheet)"
part B pins: 1 NC "No Connect. No connect  pins have no connection to any internal circuitry. These pins may be tied to either GND or VIN, or left floating.", 4 NC "No Connect. No connect  pins have no connection to any internal circuitry. These pins may be tied to either GND or VIN, or left floating.", 9 NC "No Connect. No connect  pins have no connection to any internal circuitry. These pins may be tied to either GND or VIN, or left floating.", 12 NC "No Connect. No connect  pins have no connection to any internal circuitry. These pins may be tied to either GND or VIN, or left ?oating."

## LT1763CDE-1.8#TR
designator U?
500 mA, Low Noise, LDO Micropower Regulator, 1.8 to 20 V Vin, 1.8 V Vout, 12-pin SON (DE-UE-12), -40 to 125 degC, Tape and Reel; Manufacturer: Linear Technology; PartNumber: LT1763CDE-1.8#TR; Discrete Pass Element: no; Dropout Voltage(V): 0.3; Iout(mA): 500; Isupply(mA): 0.03; Noise(uV): 20; Number of Outputs: 1; Output Voltage: 1.8 V; PSRR(dB): 65; Vin Min(V): 1.8; DatasheetVersion: Rev. G; PackageVersion: Rev. D, 06/2010; PackageReference: DE-UE-12; PackageDescription: 12-Pin Plastic DFN, Body 4 x 3 mm, Pitch 0.5 mm; Packing: Tape and Reel; RoHS: FALSE; Shutdown Current(uA): 1; Vin Max(V): 20; Mounting Technology: Surface Mount; Code_JEDEC: MO-229; ComponentLink1Description: Manufacturer URL; ComponentLink1URL: http://www.linear.com/; ComponentLink2Description: Datasheet; ComponentLink2URL: http://cds.linear.com/docs/en/datasheet/1763fg.pdf; ComponentLink3Description: Package Specification; ComponentLink3URL: http://cds.linear.com/docs/en/packaging/DFN_12_05-08-1695.pdf
footprint LT-DE-UE-12_V (SON, 12-Leads, Body 4x3mm, Pitch 0.5mm, Thermal Pad 3.3x1.7mm)
part A pins: 2 OUT (power) "Output. The output supplies power to the load. A minimum output capacitor of 3.3uF is required to prevent oscillations. Larger output capacitors will be required for applications with large transient loads to limit peak (See Datasheet)", 3 OUT (power) "Output. The output supplies power to the load. A minimum output capacitor of 3.3uF is required to prevent oscillations. Larger output capacitors will be required for applications with large transient loads to limit peak (See Datasheet)", 5 SENSE (in) "Output Sense. For ?xed voltage versions of the LT1763 (LT1763-1.5/LT1763-1.8/ LT1763-2.5/LT1763-3/LT1763-3.3/LT1763-5), the SENSE pin is the input to the error amplifier. Optimum regulation will be obtained at the po(See Datasheet)", 6 BYP "Bypass. The BYP pin is used to bypass  the reference of the LT1763 regulators to achieve low noise  performance from the regulator. The BYP pin is clamped  internally to +/-0.6V (one VBE). A small capacitor from the  output (See Datasheet)", 7 GND (power) "Ground. The exposed pad of the DFN package is an electrical connection to GND. To ensure proper electrical and thermal  performance, solder Pin 13 to the PCB ground and tie  directly to Pin 7. Connect the bottom of the (See Datasheet)", 8 ~{SHDN} (in) "Shutdown. The S\H\D\N\ pin is used  to put the LT1763 regulators into a low power shutdown state. The output will be off when the S\H\D\N\ pin is pulled low. The S\H\D\N\ pin can be driven either by 5V logic or (See Datasheet)", 10 IN (power) "Input. Power is supplied to the device through the IN pin. A bypass capacitor is required on this  pin if the device is more than six inches away from the  main input filter capacitor. In general, the output impedance of (See Datasheet)", 11 IN (power) "Input. Power is supplied to the device through the IN pin. A bypass capacitor is required on this  pin if the device is more than six inches away from the  main input filter capacitor. In general, the output impedance of (See Datasheet)", 13 EP (power) "Ground. The exposed pad of the DFN package is an electrical connection to GND. To ensure proper electrical and thermal performance, solder Pin 13 to the PCB ground and tie  directly to Pin 7. Connect the bottom of the output (See Datasheet)"
part B pins: 1 NC "No Connect. No connect  pins have no connection to any internal circuitry. These pins may be tied to either GND or VIN, or left floating.", 4 NC "No Connect. No connect  pins have no connection to any internal circuitry. These pins may be tied to either GND or VIN, or left floating.", 9 NC "No Connect. No connect  pins have no connection to any internal circuitry. These pins may be tied to either GND or VIN, or left floating.", 12 NC "No Connect. No connect  pins have no connection to any internal circuitry. These pins may be tied to either GND or VIN, or left ?oating."